# Altium schematic symbol library SS8050_C21501.SCHLIB: 1 symbol
Pins are listed as number, name and electrical type; pins without a type are passive.

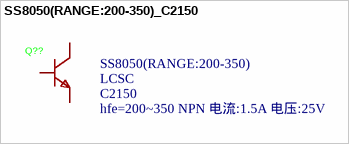
[diagram p0: symbol SS8050(RANGE:200-350)_C2150]

## SS8050(RANGE:200-350)_C2150
designator Q??, comment LCSC Part Name: hfe=200~350 NPN 电流:1.5A 电压:25V  Supplier Part: C2150  Supplier: LCSC  (hidden comment: SS8050(RANGE:200-350))
Manufacturer: CJ(江苏长电/长晶); Symbol: SS8050_C2150; Device: SS8050(RANGE:200-350)_C2150; Add into BOM: yes; type: NPN; Current - Collector(Ic): 1.5A; Collector - Emitter Voltage VCEO: 25V; Pd - Power Dissipation: 300mW; DC Current Gain: 200@800mA,1V; Transition frequency(fT): 100MHz; Current - Collector Cutoff: 100nA; Vce Saturation(VCE(sat)): 500mV@800mA,80mA; Emitter-Base Voltage(Vebo): 5V; Number: 1 NPN; Supplier Footprint: SOT-23; JLCPCB Part Class: Basic Part; Datasheet: https://item.szlcsc.com/datasheet/SS8050(RANGE%253A200-350)/2507.html; Convert to PCB: yes; Operating Temperature: -55℃~+150℃; Manufacturer Part: SS8050(RANGE:200-350)
footprint SOT-23-3_L2.9-W1.3-P1.90-LS2.4-BR
3D model SOT-23-3P_L2.9-W1.3-H1.0-LS2.4-P0.95
pins: 1 B, 2 E, 3 C